# EAGLE library part TAB_CON_3_5MM (library Connetors_ACTIVE14)
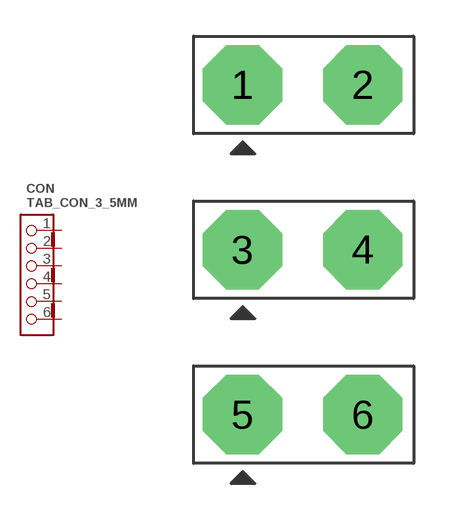
[diagram p0: symbol with the pads of TAB_CON_2_5MM; footprint TAB_CON_2_5MM]

Designator prefix CON

## TAB_CON_3_5MM  [TAB_CON_2_5MM]
1  P$1
2  P$2
3  P$3
4  P$4
5  P$5
6  P$6

## Footprint TAB_CON_2_5MM (pad centres in mm)
drill 1.4 pad 3.3 octagon: 1 -2.54,6.858; 2 2.46,6.858; 3 -2.54,0; 4 2.46,0; 5 -2.54,-6.858; 6 2.46,-6.858